# Altium footprint library semiconductors.PcbLib: 5 footprints
Each footprint in its own frame and in the unit in brackets; x right, y up, seen from the top. Pads: shape width x height; smd on the part's side, far side on the other; paste and mask are expansions set on the pad; w line width, h text height; cw(c..) or ccw(c..) is an arc to the next point about the centre after c.
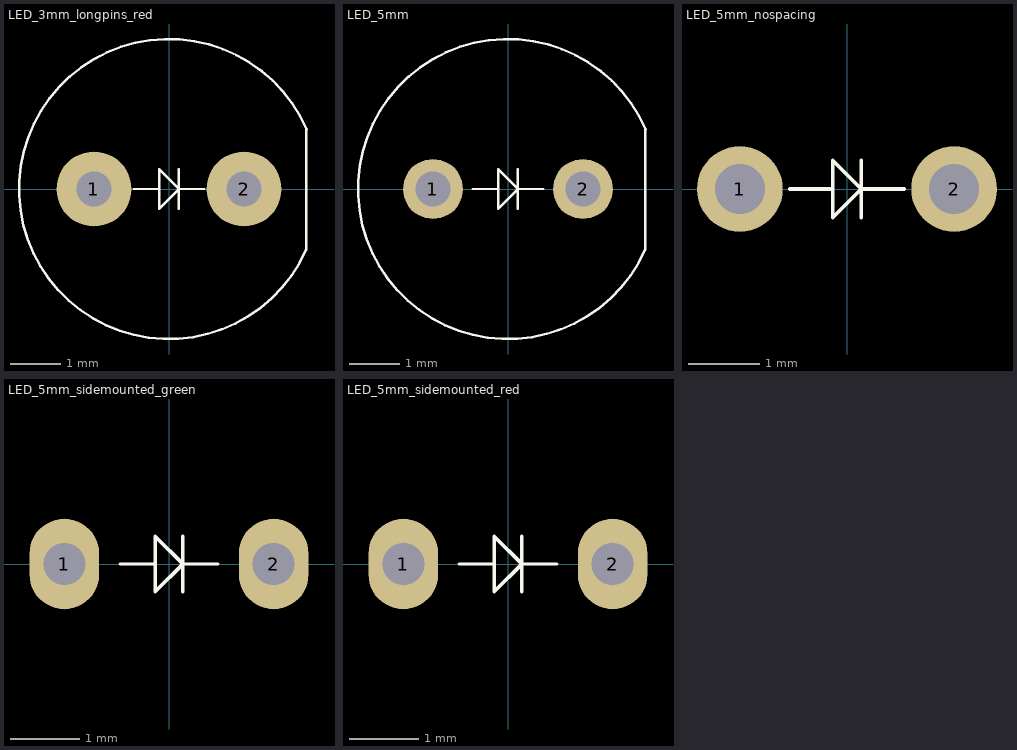
[diagram p0: the footprints below, top view; thin cyan lines are the x and y axes]

## LED_3mm_longpins_red [mm]
height 15
pads (2):
  round 1.5 hole 0.7: 1(-1.5,0) 2(1.5,0)
Top Overlay:
  lines w0.05: -0.7,0 -0.2,0 ; 0.2,-0.4 0.2,0 ; 0.2,0.4 0.2,0 ; 0.7,0 0.5,0 0.2,0 ; 2.741,1.192 2.741,-1.218 cw(c0,0) 2.751,1.196 ; 0.2,0 -0.2,0.4 -0.2,-0.4 0.2,0
3D body: height 7, standoff -1, extent 1.252,-0.249 1.75,0.25
3D body: height 7, standoff -1, extent -1.749,-0.25 -1.251,0.25
3D body: height 4, standoff 0, extent -1.5,0 -1.5,0
3D body: height 13.2, standoff 7, extent -2.5,-2.497 2.5,2.497
3D body: height 15.7, standoff 10.7, extent -2.494,-2.497 2.494,2.497

## LED_5mm [mm]
pads (2):
  round 1.2 hole 0.7: 1(-1.5,0) 2(1.5,0)
Top Overlay:
  lines w0.05: -0.7,0 -0.2,0 ; 0.2,-0.4 0.2,0 ; 0.2,0.4 0.2,0 ; 0.7,0 0.5,0 0.2,0 ; 2.741,1.192 2.741,-1.218 cw(c0,0) 2.751,1.196 ; 0.2,0 -0.2,-0.4 -0.2,0.4 0.2,0
3D body: height 1, standoff -1, extent -1.749,-0.25 -1.251,0.25
3D body: height 1, standoff -1, extent 1.252,-0.249 1.75,0.25
3D body: height 7.2, standoff 1, extent -2.5,-2.497 2.5,2.497
3D body: height 9.7, standoff 4.7, extent -2.489,-2.497 2.5,2.497
3D body: height 1.27, standoff 0, extent -1272.54,-1272.537 -1267.46,-1267.463

## LED_5mm_nospacing [mm]
pads (2):
  round 1.2 hole 0.7: 1(-1.5,0) 2(1.5,0)
Top Overlay:
  lines w0.05: -0.8,0 -0.2,0 ; 0.2,-0.4 0.2,0 ; 0.2,0.4 0.2,0 ; 0.8,0 0.5,0 0.2,0 ; 0.2,0 -0.2,0.4 -0.2,-0.4 0.2,0

## LED_5mm_sidemounted_green [mm]
height 5
pads (2):
  oval 1x1.3 hole 0.6: 1(-1.5,0) 2(1.5,0)
Top Overlay:
  lines w0.05: -0.7,0 -0.2,0 ; 0.2,-0.4 0.2,0 ; 0.2,0.4 0.2,0 ; 0.7,0 0.5,0 0.2,0 ; 0.2,0 -0.2,-0.4 -0.2,0.4 0.2,0
3D body: height 4.25, standoff 3.75, extent -1.75,-0.246 -1.25,0.246
3D body: height 4.25, standoff 3.75, extent 1.25,-0.246 1.75,0.246
3D body: height 6.5, standoff 1.5, extent -2.494,-9.497 2.494,-4.503
3D body: height 6.5, standoff 1.5, extent -2.5,-7.1 2.5,-0.9
3D body: height 4, standoff 0, extent -1.5,0 -1.5,0
3D body: height 4, standoff -1, extent -1.749,-0.25 -1.251,0.25
3D body: height 4, standoff -1, extent 1.252,-0.249 1.75,0.25
3D body: height 4.25, standoff 3.75, extent 1.251,-2 1.75,0
3D body: height 4.25, standoff 3.75, extent -1.748,-2 -1.25,0

## LED_5mm_sidemounted_red [mm]
height 5
pads (2):
  oval 1x1.3 hole 0.6: 1(-1.5,0) 2(1.5,0)
Top Overlay:
  lines w0.05: -0.7,0 -0.2,0 ; 0.2,-0.4 0.2,0 ; 0.2,0.4 0.2,0 ; 0.7,0 0.5,0 0.2,0 ; 0.2,0 -0.2,0.4 -0.2,-0.4 0.2,0
3D body: height 4.25, standoff 3.75, extent -1.748,-4 -1.25,0
3D body: height 4.25, standoff 3.75, extent 1.251,-4 1.75,0
3D body: height 4, standoff -1, extent 1.252,-0.249 1.75,0.25
3D body: height 4, standoff -1, extent -1.749,-0.25 -1.251,0.25
3D body: height 4, standoff 0, extent -1.5,0 -1.5,0
3D body: height 6.5, standoff 1.5, extent -2.5,-7.1 2.5,-0.9
3D body: height 6.5, standoff 1.5, extent -2.494,-9.744 2.494,-4.75
3D body: height 4.25, standoff 3.75, extent 1.25,-0.246 1.75,0.246
3D body: height 4.25, standoff 3.75, extent -1.75,-0.246 -1.25,0.246